# Altium footprint library USB to SATA.PcbLib: 19 footprints (part 2 of 2)
Each footprint in its own frame and in the unit in brackets; x right, y up, seen from the top. Pads: shape width x height; smd on the part's side, far side on the other; paste and mask are expansions set on the pad; w line width, h text height; cw(c..) or ccw(c..) is an arc to the next point about the centre after c.
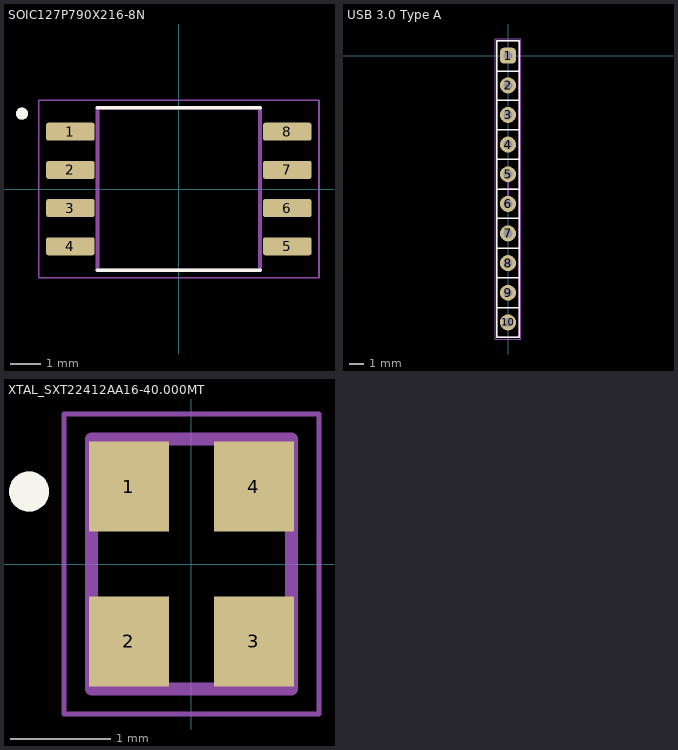
[diagram p1: the footprints below, top view; thin cyan lines are the x and y axes]

## SOIC127P790X216-8N [mm]
pads (8):
  rrect25% 1.61x0.6 smd: 1(-3.605,1.905) 2(-3.605,0.635) 3(-3.605,-0.635) 4(-3.605,-1.905) 5(3.605,-1.905) 6(3.605,-0.635) 7(3.605,0.635) 8(3.605,1.905)
Top Overlay:
  circle w0.2: c-5.215,2.505 r0.1
  lines w0.127: -2.7,-2.7 2.7,-2.7 ; -2.7,2.7 2.7,2.7
Top 3D Body:
  circle w0.2: c-5.215,2.505 r0.1
  lines w0.127: -2.7,-2.7 -2.7,2.7 2.7,2.7 2.7,-2.7 -2.7,-2.7
Top Courtyard:
  lines w0.05: -4.66,-2.95 -4.66,2.95 4.66,2.95 4.66,-2.95 -4.66,-2.95
3D body "step_temp.STEP": height 2.03, standoff 0, extent -3.97,-2.63 3.97,2.63

## USB 3.0 Type A [mm] "USB 3.0 Type A male connector"
pads (10):
  rrect50% 1.1x1.1 hole 0.6: 1(0,0)
  round 1.1 hole 0.6: 2(0,-2.032) 3(0,-4.064) 4(0,-6.096) 5(0,-8.128) 6(0,-10.16) 7(0,-12.192) 8(0,-14.224) 9(0,-16.256) 10(0,-18.288)
Top Overlay:
  lines w0.1: -0.762,-17.292 0.749,-17.292 ; -0.762,-15.219 0.749,-15.219 ; -0.762,-13.209 0.749,-13.209 ; -0.762,-11.15 0.749,-11.15 ; -0.762,-9.144 0.749,-9.144 ; -0.762,-7.085 0.749,-7.085 ; -0.762,-5.072 0.749,-5.072 ; -0.762,-3.046 0.749,-3.046 ; -0.762,-1.063 0.749,-1.063 ; -0.762,-19.304 -0.762,1.016 0.762,1.016 0.762,-19.304 -0.762,-19.304
Top Assembly:
  lines w0.1: -0.762,-19.304 0.762,-19.304 0.762,1.016 -0.762,1.016 -0.762,-19.304
  text ".Designator" at 0,-8.956 h1
Top Courtyard:
  lines w0.05: -0.889,-19.428 0.889,-19.428 0.889,1.146 -0.889,1.146 -0.889,-19.428
Top Component Center:
  lines w0.1: -0.5,-9.133 0.516,-9.133 ; 0.008,-9.641 0.008,-8.625

## XTAL_SXT22412AA16-40.000MT [mm]
pads (4):
  rect 0.8x0.9 smd: 1(-0.625,0.775) 2(-0.625,-0.775) 3(0.625,-0.775) 4(0.625,0.775)
Top Overlay:
  circle w0.2: c-1.625,0.725 r0.1
Top 3D Body:
  circle w0.2: c-1.625,0.725 r0.1
  lines w0.127: -1,-1.25 -1,1.25 1,1.25 1,-1.25 -1,-1.25
Top Courtyard:
  lines w0.05: -1.275,-1.5 -1.275,1.5 1.275,1.5 1.275,-1.5 -1.275,-1.5
3D body "User Library-SM2520-4.STEP": height 0.8, standoff -0.03, extent -1,-1.25 1,1.25